# Altium schematic symbol library SSSS212400.SchLib: 1 symbol
Pins are listed as number, name and electrical type; pins without a type are passive.

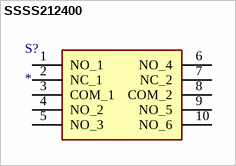
[diagram p0: symbol SSSS212400]

## SSSS212400
designator S?
Switch; Manufacturer_Name: ALPS Electric; Manufacturer_Part_Number: SSSS212400; Datasheet Link: https://www.alps.com/prod/info/E/HTML/Switch/Slide/SSSS2/SSSS224100.html; Height: 3.5mm; Mouser Part Number: 688-SSSS212400; Mouser Price/Stock: https://www.mouser.com/Search/Refine.aspx?Keyword=688-SSSS212400
footprint SSSS212400
pins: 1 NO_1, 2 NC_1, 3 COM_1, 4 NO_2, 5 NO_3, 6 NO_4, 7 NC_2, 8 COM_2, 9 NO_5, 10 NO_6